# Altium schematic symbol library Microchip-Atmel.SchLib: 5 symbols
Pins are listed as number, name and electrical type; pins without a type are passive.

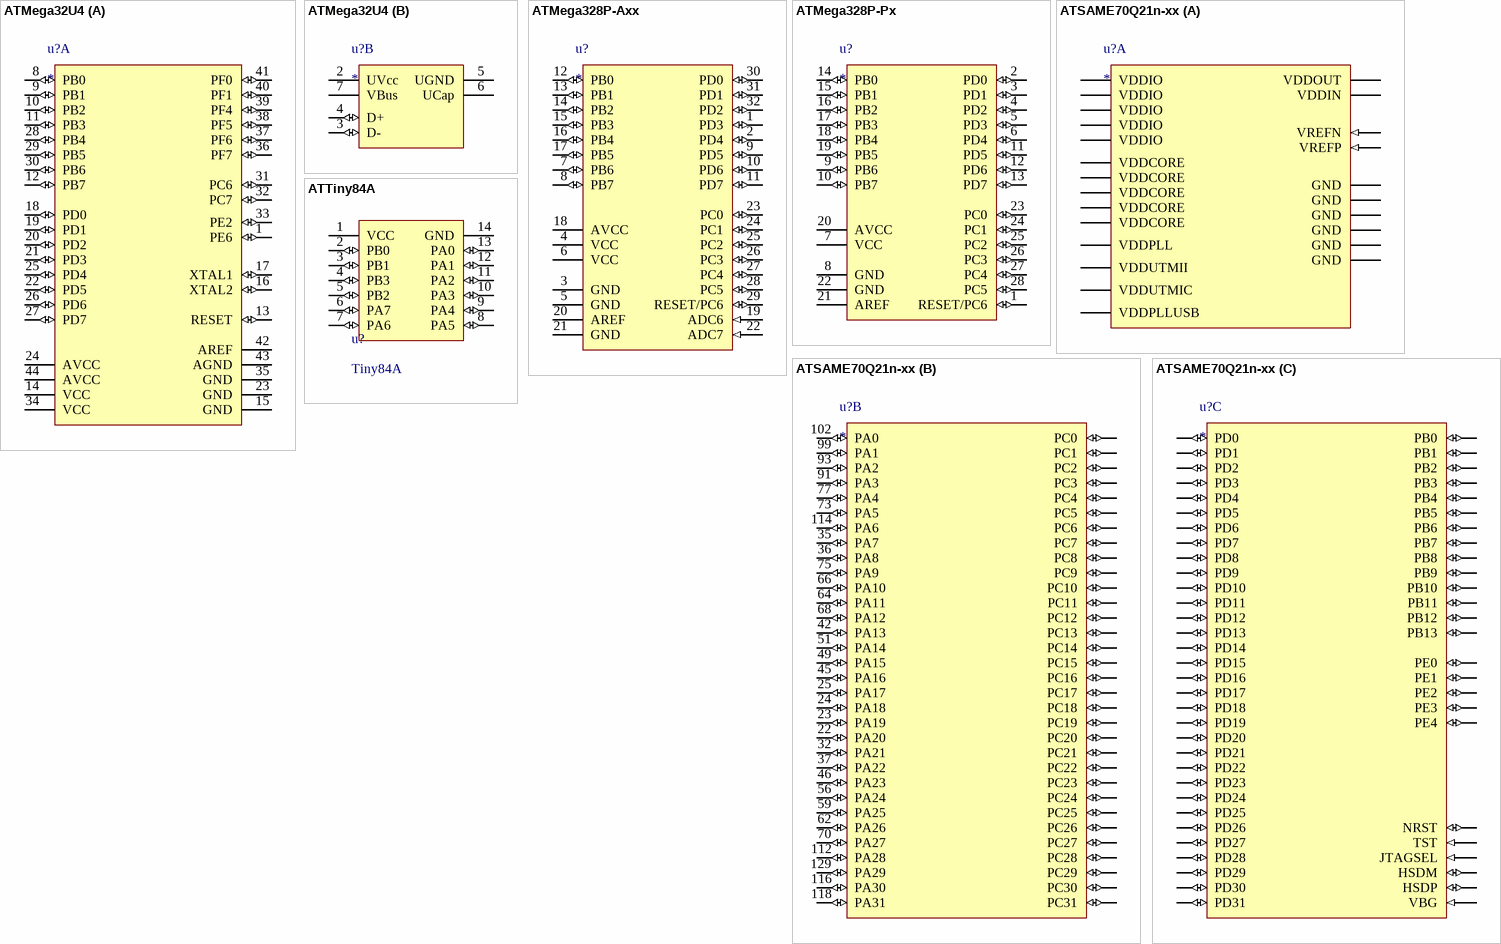
[diagram p0: symbols ATMega32U4 to ATTiny84A]

## ATMega32U4
designator u?
footprint TQFP-44 (TQFP-44 pin, 127Pitch, 600-8N)
part A pins: 1 PE6 (io), 8 PB0 (io), 9 PB1 (io), 10 PB2 (io), 11 PB3 (io), 12 PB7 (io), 13 RESET (io), 14 VCC (power), 15 GND (power), 16 XTAL2 (io), 17 XTAL1 (io), 18 PD0 (io), 19 PD1 (io), 20 PD2 (io), 21 PD3 (io), 22 PD5 (io), 23 GND (power), 24 AVCC (power), 25 PD4 (io), 26 PD6 (io), 27 PD7 (io), 28 PB4 (io), 29 PB5 (io), 30 PB6 (io), 31 PC6 (io), 32 PC7 (io), 33 PE2 (io), 34 VCC (power), 35 GND (power), 36 PF7 (io), 37 PF6 (io), 38 PF5 (io), 39 PF4 (io), 40 PF1 (io), 41 PF0 (io), 42 AREF (power), 43 AGND (power), 44 AVCC (power)
part B pins: 2 UVcc (power), 3 D- (io), 4 D+ (io), 5 UGND (power), 6 UCap (power), 7 VBus (power)

## ATMega328P-Axx
designator u?
TQFP32
footprint TQFP32 (TQFP, 32-Leads, Body 7,00x7,00mm, Pitch 0,80mm, IPC Medium Density)
pins: 1 PD3 (io) "PCINT19/OC2B/INT1)", 2 PD4 (io) "PCINT20/XCK/T0)", 3 GND (power), 4 VCC (power) "GND", 5 GND (power), 6 VCC (power) "GND", 7 PB6 (io) "PCINT6/XTAL1/TOSC1", 8 PB7 (io) "PCINT7/XTAL2/TOSC2", 9 PD5 (io) "PCINT21/OC0B/T1", 10 PD6 (io) "PCINT22/OC0A/AIN0", 11 PD7 (io) "PCINT23/AIN1", 12 PB0 (io) "PCINT0/CLKO/ICP1", 13 PB1 (io) "PCINT1/OC1A", 14 PB2 (io) "PCINT2/SS/OC1B", 15 PB3 (io) "PCINT3/OC2A/MOSI", 16 PB4 (io) "PCINT4/MISO", 17 PB5 (io) "SCK/PCINT5", 18 AVCC (power) "Analog VCC", 19 ADC6 (in), 20 AREF (power) "Analog Reference", 21 GND (power), 22 ADC7 (in), 23 PC0 (io) "ADC0/PCINT8", 24 PC1 (io) "ADC1/PCINT9", 25 PC2 (io) "ADC2/PCINT10", 26 PC3 (io) "ADC3/PCINT11", 27 PC4 (io) "ADC4/SDA/PCINT12", 28 PC5 (io) "ADC5/SCL/PCINT13", 29 RESET/PC6 (io) "RESET/PCINT14", 30 PD0 (io) "RXD/PCINT16", 31 PD1 (io) "TXD/PCINT17", 32 PD2 (io) "INT0/PCINT18"

## ATMega328P-Px
designator u?
PDIP28
footprint PDIP28 (Dual In-Line Plastic Package 28pin, Pitch 2.54mm)
pins: 1 RESET/PC6 (io) "RESET/PCINT14", 2 PD0 (io) "RXD/PCINT16", 3 PD1 (io) "TXD/PCINT17", 4 PD2 (io) "INT0/PCINT18", 5 PD3 (io) "PCINT19/OC2B/INT1)", 6 PD4 (io) "PCINT20/XCK/T0)", 7 VCC (power) "GND", 8 GND (power), 9 PB6 (io) "PCINT6/XTAL1/TOSC1", 10 PB7 (io) "PCINT7/XTAL2/TOSC2", 11 PD5 (io) "PCINT21/OC0B/T1", 12 PD6 (io) "PCINT22/OC0A/AIN0", 13 PD7 (io) "PCINT23/AIN1", 14 PB0 (io) "PCINT0/CLKO/ICP1", 15 PB1 (io) "PCINT1/OC1A", 16 PB2 (io) "PCINT2/SS/OC1B", 17 PB3 (io) "PCINT3/OC2A/MOSI", 18 PB4 (io) "PCINT4/MISO", 19 PB5 (io) "SCK/PCINT5", 20 AVCC (power) "Analog VCC", 21 AREF (power) "Analog Reference", 22 GND (power), 23 PC0 (io) "ADC0/PCINT8", 24 PC1 (io) "ADC1/PCINT9", 25 PC2 (io) "ADC2/PCINT10", 26 PC3 (io) "ADC3/PCINT11", 27 PC4 (io) "ADC4/SDA/PCINT12", 28 PC5 (io) "ADC5/SCL/PCINT13"

## ATSAME70Q21n-xx
designator u?
LQFP144
footprint 144-pin LQFP (LQFP144 package 0.5Pitch)
part A pins: 3 VDDOUT (power) "Voltage output", 5 VDDIN (power) "Power input", 186 VREFN (in), 187 VREFP (in), 190 VDDIO (power), 191 VDDIO (power), 192 VDDIO (power), 193 VDDIO (power), 194 VDDIO (power), 196 VDDCORE (power), 197 VDDCORE (power), 198 VDDCORE (power), 199 VDDCORE (power), 200 VDDCORE (power), 201 VDDPLL (power), 202 VDDUTMII (power), 205 GND (power), 206 GND (power), 207 GND (power), 208 GND (power), 209 GND (power), 210 GND (power), 211 VDDUTMIC (power), 212 VDDPLLUSB (power)
part B pins: 22 PA20 (io) "PA20-AFE0_AD9/WKUP10-PWMC0_PWML1-A16/BA0-I2SC1_CK", 23 PA19 (io) "PA19-AFE0_AD8/WKUP9-PWMC0_PWML0-A15-I2SC1_MCK", 24 PA18 (io) "PA18-AFE0_AD7-PWMC1_PWMEXTRG1-PCK2-A14", 25 PA17 (io) "PA17-AFE0_AD6-QIO2-PCK1-PWMC0_PWMH3", 32 PA21 (io) "PA22-AFE0_AD1/PIODCEN2-RXD1-PCK1-PWMC1_PWMFI0", 35 PA7 (io) "PA7-XIN32-PWMC0_PWML3-AFE0_ADTRG", 36 PA8 (io) "PA8-XOUT32-PWMC1_PWMH3", 37 PA22 (io) "PA22-PIODCCLK-RK-PWMC0_PWMEXTRG1", 42 PA13 (io) "PA13-PIODC7-QIO0-PWMC0_PWMH2-PWMC1_PWML1", 45 PA16 (io) "PA16-D15-PCK1-PWMC0_PWML2-I2SC0_WS", 46 PA23 (io) "PA23-SCK1-PWMC0_PWMH0-A19-PWMC1_PWML2", 49 PA15 (io) "PA15-D14-TIOA1_PWMC0_PWML3", 51 PA14 (io) "PA14-WKUP8/PIODCEN1-QSCK-PWMC0_PWMH2-PWMC1_PWMH1", 56 PA24 (io) "PA24-RTS1-PWMC0_PWMH1-A20-ISI_PCK", 59 PA25 (io) "PA25-CTS1-PWMC0_PWMH2-A23-MCCK", 62 PA26 (io) "PA26-DCD1-TIOA2-MCDA2-PWMC1_PWMFI1", 64 PA11 (io) "PA11-WKUP7/PIODC5-QCS-PWMC0_PWMH0-PWMC1_PWML0", 66 PA10 (io) "PA10-POIDC4-UTXD0-PWMC0_PWMEXTRG0", 68 PA12 (io) "PA12-PIODC6-QIO1-PWMC0_PWMH1-PWMC1_PWMH0", 70 PA27 (io) "PA70-DTR1-TIOB2-MCDA3-ISI_D7", 73 PA5 (io) "PA5-WKUP4/PIODC2-PWMC1_PWML3-ISI_D4-URXD1", 75 PA9 (io) "PA9-WKUP/PIODC3-URXD0-ISI_D3-PWMC0_PWML0", 77 PA4 (io) "PA4-WKUP3/PIODC1-TWCK0-TCLK0-UTXD1", 91 PA3 (io) "PA3-PIODC0-TWD0-LONCOL1-PCK2", 93 PA2 (io) "PA2-WKUP2-PWMC0_PWMH1-DATRG", 99 PA1 (io) "PA1-WKUP1-PWMC0_PWML0-TIOB0-A18-I2SC0_CK", 102 PA0 (io) "PA0-WKUP0-PWMC0_PWMH0-TIOA0-A17/BA1-I2SC0_MCK", 103 PC0 (io), 104 PC1 (io), 105 PC2 (io), 106 PC3 (io), 107 PC4 (io), 108 PC5 (io), 109 PC6 (io), 110 PC7 (io), 111 PC8 (io), 112 PA28 (io) "PA28-DSR1-TCLK1-MCCDA-PWMC1_PWMFI2", 112 PC9 (io), 113 PC10 (io), 114 PA6 (io) "PA6-PCK0-UTXD1", 114 PC11 (io), 115 PC12 (io), 116 PA30 (io) "PA30-KWUP11-PWMC0_PWML2-PWMC1_PWMEXTRG0-MCDA0-I2SC0_D0", 116 PC13 (io), 117 PC14 (io), 118 PA31 (io) "PA31-SPI0_NPCS1-PCK2-MCDA1-PWMC1_PWMH2", 118 PC15 (io), 119 PC16 (io), 120 PC17 (io), 121 PC18 (io), 122 PC19 (io), 123 PC20 (io), 124 PC21 (io), 125 PC22 (io), 126 PC23 (io), 127 PC24 (io), 128 PC25 (io), 129 PA29 (io) "PA29-RI1-TCLK2", 129 PC26 (io), 130 PC27 (io), 131 PC28 (io), 132 PC29 (io), 133 PC30 (io), 134 PC31 (io)
part C pins: 135 PD0 (io), 136 PD1 (io), 137 PD2 (io), 138 PD3 (io), 139 PD4 (io), 140 PD5 (io), 141 PD6 (io), 142 PD7 (io), 143 PD8 (io), 144 PD9 (io), 145 PD10 (io), 146 PD11 (io), 147 PD12 (io), 148 PD13 (io), 149 PD14 (io), 150 PD15 (io), 151 PD16 (io), 152 PD17 (io), 153 PD18 (io), 154 PD19 (io), 155 PD20 (io), 156 PD21 (io), 157 PD22 (io), 158 PD23 (io), 159 PD24 (io), 160 PD25 (io), 161 PD26 (io), 162 PD27 (io), 163 PD28 (io), 164 PD29 (io), 165 PD30 (io), 166 PD31 (io), 167 PB0 (io), 168 PB1 (io), 169 PB2 (io), 170 PB3 (io), 171 PB4 (io), 172 PB5 (io), 173 PB6 (io), 174 PB7 (io), 175 PB8 (io), 176 PB9 (io), 177 PB10 (io), 178 PB11 (io), 179 PB12 (io), 180 PB13 (io), 181 PE0 (io), 182 PE1 (io), 183 PE2 (io), 184 PE3 (io), 185 PE4 (io), 188 NRST (io), 189 TST (in), 195 JTAGSEL (in), 203 HSDM (io), 204 HSDP (io), 213 VBG (in)

## ATTiny84A
designator u?, comment Tiny84A
ATTiny84A
footprint SOIC14N (SOIC14 - 127Pitch)
pins: 1 VCC (power), 2 PB0 (io) "PCINT8/XTAL1/CLKI", 3 PB1 (io) "PCINT9/XTAL2", 4 PB3 (io) "PCINT11/RESET/dW", 5 PB2 (io) "PCINT10/INT0/OC0A/CKOUT", 6 PA7 (io) "PCINT7/ICP/OC0B/ADC7", 7 PA6 (io) "PCINT6/OC1A/SDA/MODI/DI/ADC6", 8 PA5 (io) "ADC5/DO/MISO/OC1B/PCINT5", 9 PA4 (io) "ADC4/USCK/SCL/T1/PCINT4", 10 PA3 (io) "ADC3/T0/PCINT3", 11 PA2 (io) "ADC2/AIN1/PCINT2", 12 PA1 (io) "ADC1/AIN0/PCINT1", 13 PA0 (io) "ADC0/AREF/PCINT0", 14 GND (power) "Ground"